# Altium footprint library PQFN.PcbLib: 3 footprints
Each footprint in its own frame and in the unit in brackets; x right, y up, seen from the top. Pads: shape width x height; smd on the part's side, far side on the other; paste and mask are expansions set on the pad; w line width, h text height; cw(c..) or ccw(c..) is an arc to the next point about the centre after c.
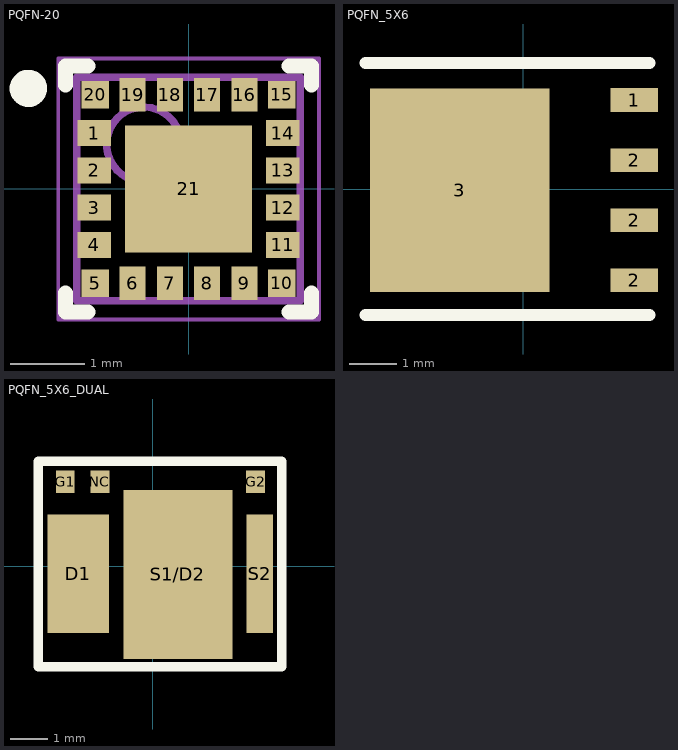
[diagram p0: the footprints below, top view; thin cyan lines are the x and y axes]

## PQFN-20 [mm] "PQFN, 20-Leads, Body 3,00x3,00mm, Pitch 0,50mm, IPC Medium Density"
height 0.6
pads (21):
  rect 0.45x0.35 smd: 1(-1.265,0.75) 2(-1.265,0.25) 3(-1.265,-0.25) 4(-1.265,-0.75) 11(1.265,-0.75) 12(1.265,-0.25) 13(1.265,0.25) 14(1.265,0.75)
  rect 0.37x0.37 smd: 5(-1.25,-1.265) 10(1.25,-1.265) 15(1.25,1.265) 20(-1.25,1.265)
  rect 0.35x0.45 smd: 6(-0.75,-1.265) 7(-0.25,-1.265) 8(0.25,-1.265) 9(0.75,-1.265) 16(0.75,1.265) 17(0.25,1.265) 18(-0.25,1.265) 19(-0.75,1.265)
  rect 1.7x1.7 smd: 21(0,0)
Top Overlay:
  circle w0.25: c-2.15,1.35 r0.125
  lines w0.2: -1.651,-1.397 -1.651,-1.651 -1.349,-1.651 ; -1.651,1.397 -1.651,1.651 -1.349,1.651 ; 1.349,-1.651 1.651,-1.651 1.651,-1.397 ; 1.349,1.651 1.651,1.651 1.651,1.397
Mechanical 13:
  circle w0.1: c-0.6,0.6 r0.5
  lines w0.1: -1.5,-1.5 1.5,-1.5 1.5,1.5 -1.5,1.5 -1.5,-1.5
Mechanical 15:
  lines w0.05: -1.75,-1.75 1.75,-1.75 1.75,1.75 -1.75,1.75 -1.75,-1.75
  lines w0.1: -0.5,0 0.5,0 ; 0,-0.5 0,0.5
3D body "PQFN-20.step": height 0.6, standoff 0, extent -1.5,-1.5 1.5,1.5

## PQFN_5X6 [mm]
pads (5):
  rect 1x0.5 smd: 1(2.35,1.88) 2(2.35,-1.93) 2(2.35,-0.66) 2(2.35,0.61)
  rect 3.8x4.3 smd: 3(-1.34,-0.03)
Top Overlay:
  lines w0.254: -3.333,-2.667 2.667,-2.667 ; -3.333,2.667 2.667,2.667
3D body "PQFN 5x6.step": height 0.9, standoff 0, extent -3.264,-2.5 2.756,2.5

## PQFN_5X6_DUAL [mm]
pads (6):
  rect 1.643x3.15 smd: D1(-1.983,-0.201)
  rect 0.5x0.6 smd: G1(-2.327,2.25) G2(2.732,2.25) NC(-1.408,2.25)
  rect 2.9x4.5 smd: S1/D2(0.663,-0.215)
  rect 0.717x3.15 smd: S2(2.841,-0.201)
Top Overlay:
  lines w0.254: -3.048,-2.667 -3.047,2.795 3.43,2.793 3.426,-2.667 -3.048,-2.667
3D body "User Library-PQFN 5x6.step": height 0.9, standoff 0, extent -2.883,-2.5 3.137,2.5